# Altium schematic symbol library 653 0xx 117 322.SchLib: 9 symbols
Pins are listed as number, name and electrical type; pins without a type are passive.

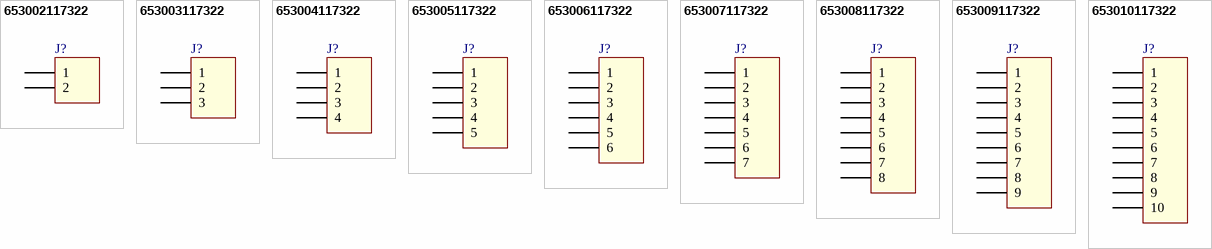
[diagram p0: symbols 653002117322 to 653010117322]

## 653002117322
designator J?
WR-WTB 1.25mm Male Horizontal Shrouded Header, 2p; Part Number: 653002117322; Pin Number: 2; ComponentLink1Description: Manufacturer; ComponentLink1URL: http://www.we-online.de; ComponentLink2Description: Datasheet; ComponentLink2URL: http://katalog.we-online.de/em/datasheet/6530xx117322.pdf; Published Date: June 2017; Publisher: Wurth Elektronik; Pitch: 1.25 mm
footprint 653002117322 (1.25mm Male Horizontal Shrouded Header, 2p)
pins: 1, 2

## 653003117322
designator J?
WR-WTB 1.25mm Male Horizontal Shrouded Header, 3p; Part Number: 653003117322; Pin Number: 3; ComponentLink1Description: Manufacturer; ComponentLink1URL: http://www.we-online.de; ComponentLink2Description: Datasheet; ComponentLink2URL: http://katalog.we-online.de/em/datasheet/6530xx117322.pdf; Published Date: June 2017; Publisher: Wurth Elektronik; Pitch: 1.25 mm
footprint 653003117322 (1.25mm Male Horizontal Shrouded Header, 3p)
pins: 1, 2, 3

## 653004117322
designator J?
WR-WTB 1.25mm Male Horizontal Shrouded Header, 4p; Part Number: 653004117322; Pin Number: 4; ComponentLink1Description: Manufacturer; ComponentLink1URL: http://www.we-online.de; ComponentLink2Description: Datasheet; ComponentLink2URL: http://katalog.we-online.de/em/datasheet/6530xx117322.pdf; Published Date: June 2017; Publisher: Wurth Elektronik; Pitch: 1.25 mm
footprint 653004117322 (1.25mm Male Horizontal Shrouded Header, 4p)
pins: 1, 2, 3, 4

## 653005117322
designator J?
WR-WTB 1.25mm Male Horizontal Shrouded Header, 5p; Part Number: 653005117322; Pin Number: 5; ComponentLink1Description: Manufacturer; ComponentLink1URL: http://www.we-online.de; ComponentLink2Description: Datasheet; ComponentLink2URL: http://katalog.we-online.de/em/datasheet/6530xx117322.pdf; Published Date: June 2017; Publisher: Wurth Elektronik; Pitch: 1.25 mm
footprint 653005117322 (1.25mm Male Horizontal Shrouded Header, 5p)
pins: 1, 2, 3, 4, 5

## 653006117322
designator J?
WR-WTB 1.25mm Male Horizontal Shrouded Header, 6p; Part Number: 653006117322; Pin Number: 6; ComponentLink1Description: Manufacturer; ComponentLink1URL: http://www.we-online.de; ComponentLink2Description: Datasheet; ComponentLink2URL: http://katalog.we-online.de/em/datasheet/6530xx117322.pdf; Published Date: June 2017; Publisher: Wurth Elektronik; Pitch: 1.25 mm
footprint 653006117322 (1.25mm Male Horizontal Shrouded Header, 6p)
pins: 1, 2, 3, 4, 5, 6

## 653007117322
designator J?
WR-WTB 1.25mm Male Horizontal Shrouded Header, 7p; Part Number: 653007117322; Pin Number: 7; ComponentLink1Description: Manufacturer; ComponentLink1URL: http://www.we-online.de; ComponentLink2Description: Datasheet; ComponentLink2URL: http://katalog.we-online.de/em/datasheet/6530xx117322.pdf; Published Date: June 2017; Publisher: Wurth Elektronik; Pitch: 1.25 mm
footprint 653007117322 (1.25mm Male Horizontal Shrouded Header, 7p)
pins: 1, 2, 3, 4, 5, 6, 7

## 653008117322
designator J?
WR-WTB 1.25mm Male Horizontal Shrouded Header, 8p; Part Number: 653008117322; Pin Number: 8; ComponentLink1Description: Manufacturer; ComponentLink1URL: http://www.we-online.de; ComponentLink2Description: Datasheet; ComponentLink2URL: http://katalog.we-online.de/em/datasheet/6530xx117322.pdf; Published Date: June 2017; Publisher: Wurth Elektronik; Pitch: 1.25 mm
footprint 653008117322 (1.25mm Male Horizontal Shrouded Header, 8p)
pins: 1, 2, 3, 4, 5, 6, 7, 8

## 653009117322
designator J?
WR-WTB 1.25mm Male Horizontal Shrouded Header, 9p; Part Number: 653009117322; Pin Number: 9; ComponentLink1Description: Manufacturer; ComponentLink1URL: http://www.we-online.de; ComponentLink2Description: Datasheet; ComponentLink2URL: http://katalog.we-online.de/em/datasheet/6530xx117322.pdf; Published Date: June 2017; Publisher: Wurth Elektronik; Pitch: 1.25 mm
footprint 653009117322 (1.25mm Male Horizontal Shrouded Header, 9p)
pins: 1, 2, 3, 4, 5, 6, 7, 8, 9

## 653010117322
designator J?
WR-WTB 1.25mm Male Horizontal Shrouded Header, 10p; Part Number: 653010117322; Pin Number: 10; ComponentLink1Description: Manufacturer; ComponentLink1URL: http://www.we-online.de; ComponentLink2Description: Datasheet; ComponentLink2URL: http://katalog.we-online.de/em/datasheet/6530xx117322.pdf; Published Date: June 2017; Publisher: Wurth Elektronik; Pitch: 1.25 mm
footprint 653010117322 (1.25mm Male Horizontal Shrouded Header, 10p)
pins: 1, 2, 3, 4, 5, 6, 7, 8, 9, 10